# EAGLE library part K561IE10 (library _mtvl_ic.soviet)
Dual binary up COUNTER
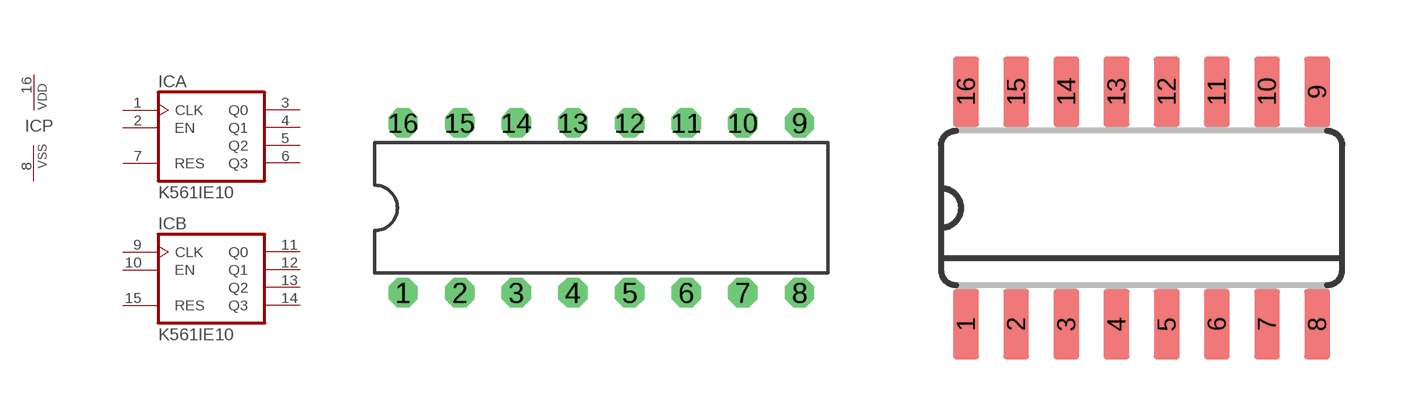
[diagram p8: symbol with the pads of DIL16; footprints DIL16, SO16]

Designator prefix IC; gates A=4518 B=4518 P=PWRN-1

## K561IE10N  [DIL16]
1  A:CLK  in
2  A:EN  in
3  A:Q0  out
4  A:Q1  out
5  A:Q2  out
6  A:Q3  out
7  A:RES  in
8  P:VSS  pwr
9  B:CLK  in
10  B:EN  in
11  B:Q0  out
12  B:Q1  out
13  B:Q2  out
14  B:Q3  out
15  B:RES  in
16  P:VDD  pwr

## K561IE10D  [SO16]
Pads as for DIL16

## K561IE10  [238.16.1]
Pads as for DIL16

## Footprint DIL16 (pad centres in mm)
Dual In Line Package
drill 0.813 octagon: 1 -8.89,-3.81; 2 -6.35,-3.81; 3 -3.81,-3.81; 4 -1.27,-3.81; 5 1.27,-3.81; 6 3.81,-3.81; 7 6.35,-3.81; 8 8.89,-3.81; 9 8.89,3.81; 10 6.35,3.81; 11 3.81,3.81; 12 1.27,3.81; 13 -1.27,3.81; 14 -3.81,3.81; 15 -6.35,3.81; 16 -8.89,3.81

## Footprint SO16 (pad centres in mm)
Small Outline package 150 mil
smd 0.66 x 1.778: 1 -4.445,-2.946; 2 -3.175,-2.946; 3 -1.905,-2.946; 4 -0.635,-2.946; 5 0.635,-2.946; 6 1.905,-2.946; 7 3.175,-2.946; 8 4.445,-2.946; 9 4.445,2.946; 10 3.175,2.946; 11 1.905,2.946; 12 0.635,2.946; 13 -0.635,2.946; 14 -1.905,2.946; 15 -3.175,2.946; 16 -4.445,2.946

## Footprint 238.16.1 (pad centres in mm)
Dual In Line Package
drill 0.8 square: 1 -8.75,-3.75
drill 0.8 octagon: 2 -6.25,-3.75; 3 -3.75,-3.75; 4 -1.25,-3.75; 5 1.25,-3.75; 6 3.75,-3.75; 7 6.25,-3.75; 8 8.75,-3.75; 9 8.75,3.75; 10 6.25,3.75; 11 3.75,3.75; 12 1.25,3.75; 13 -1.25,3.75; 14 -3.75,3.75; 15 -6.25,3.75; 16 -8.75,3.75